# EAGLE library part HI3-0507A-5Z (library Intersil_By_element14_Batch_1)
CMOS Analog MUXs
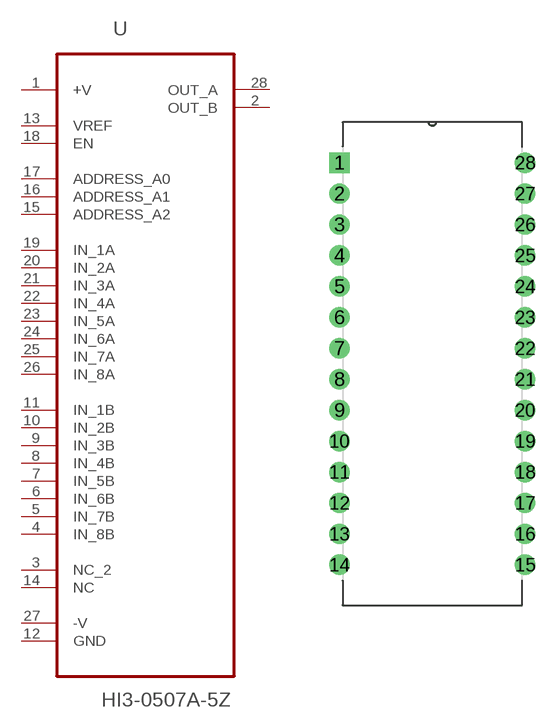
[diagram p124: symbol with the pads of DIP254P1524X635-28; footprint DIP254P1524X635-28]

Designator prefix U

## HI3-0507A-5Z (MPN: HI3-0507A-5Z; OC_FARNELL: 1561950; OC_NEWARK: 61J6012; PACKAGE: PCDIP-28; SUPPLIER: INTERSIL)  [DIP254P1524X635-28]
1  +V  pwr
2  OUT_B  out
3  NC_2  nc
4  IN_8B  in
5  IN_7B  in
6  IN_6B  in
7  IN_5B  in
8  IN_4B  in
9  IN_3B  in
10  IN_2B  in
11  IN_1B  in
12  GND  pas
13  VREF  in
14  NC  in
15  ADDRESS_A2  in
16  ADDRESS_A1  in
17  ADDRESS_A0  in
18  EN  in
19  IN_1A  in
20  IN_2A  in
21  IN_3A  in
22  IN_4A  in
23  IN_5A  in
24  IN_6A  in
25  IN_7A  in
26  IN_8A  in
27  -V  in
28  OUT_A  out

## Footprint DIP254P1524X635-28 (pad centres in mm)
drill 1.118 square: 1 -15.24,33.02
drill 1.118: 2 -15.24,30.48; 3 -15.24,27.94; 4 -15.24,25.4; 5 -15.24,22.86; 6 -15.24,20.32; 7 -15.24,17.78; 8 -15.24,15.24; 9 -15.24,12.7; 10 -15.24,10.16; 11 -15.24,7.62; 12 -15.24,5.08; 13 -15.24,2.54; 14 -15.24,0; 15 0,0; 16 0,2.54; 17 0,5.08; 18 0,7.62; 19 0,10.16; 20 0,12.7; 21 0,15.24; 22 0,17.78; 23 0,20.32; 24 0,22.86; 25 0,25.4; 26 0,27.94; 27 0,30.48; 28 0,33.02